# EAGLE library part MET32 (library 9_Dynalec)
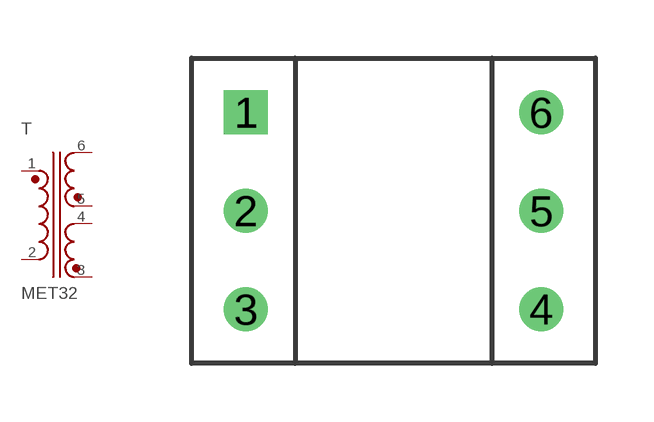
[diagram p5: symbol with the pads of MET32; footprint MET32]

Designator prefix T

## MET32  [MET32]
1  1  pas
2  2  pas
3  3  pas
4  4  pas
5  5  pas
6  6  pas

## Footprint MET32 (pad centres in mm)
drill 0.635 square: 1 -3.81,2.54
drill 0.635: 2 -3.81,0; 3 -3.81,-2.54; 4 3.81,-2.54; 5 3.81,0; 6 3.81,2.54